# Altium footprint library LED_PcbLib.PcbLib: 3 footprints
Each footprint in its own frame and in the unit in brackets; x right, y up, seen from the top. Pads: shape width x height; smd on the part's side, far side on the other; paste and mask are expansions set on the pad; w line width, h text height; cw(c..) or ccw(c..) is an arc to the next point about the centre after c.
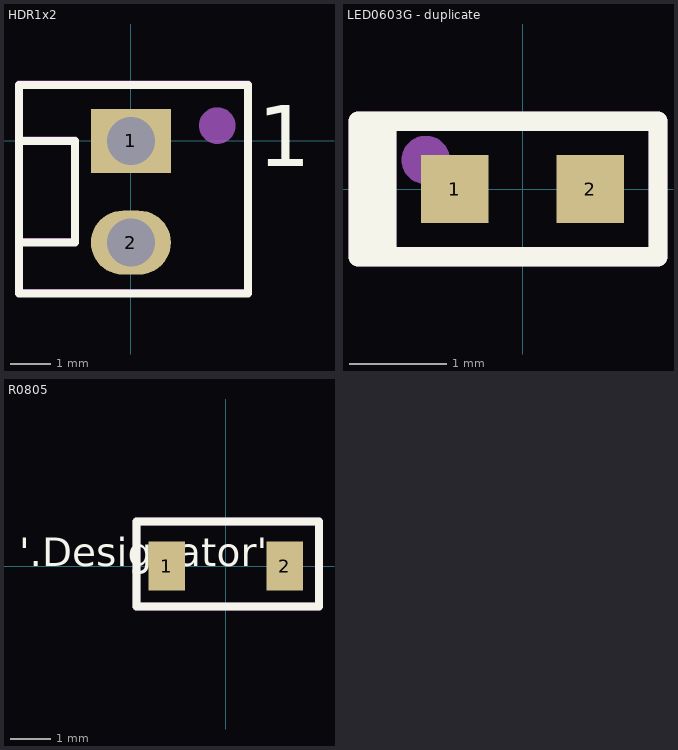
[diagram p0: the footprints below, top view; thin cyan lines are the x and y axes]

## HDR1x2 [mm]
pads (2):
  rect 2x1.6 hole 1.2: 1(0,0)
  oval 2x1.6 hole 1.2: 2(0,-2.54)
Top Overlay:
  lines w0.2: -2.667,-2.54 -1.397,-2.54 -1.397,0 -2.667,0 ; -2.794,-3.81 -2.794,1.397 2.921,1.397 2.921,-3.81 -2.794,-3.81
  text "1" at 3.175,-0.635 h1.52
Top Assembly:
  circle w0.508: c2.159,0.381 r0.203
  lines w0.2: -2.668,-2.532 -1.398,-2.532 -1.398,0.008 -2.668,0.008 ; -2.795,-3.802 -2.795,1.405 2.92,1.405 2.92,-3.802 -2.795,-3.802
  text ".Designator" at -7.364,-2.286 h1.2
3D body "022272021.stp": height 11.71, standoff -3.55, extent -2.88,-3.683 2.92,1.397

## LED0603G - duplicate [mm]
pads (2):
  rect 0.7x0.7 smd: 1(-0.7,0) 2(0.7,0)
Top Overlay:
  rectangle: -1.7,-0.7 -1.3,0.7
  lines w0.2: -1.7,-0.7 1.4,-0.7 1.4,0.7 -1.7,0.7 -1.7,-0.7
Top Assembly:
  circle w0.3: c-1,0.3 r0.1
  rectangle: -1.7,-0.7 -1.3,0.7
  lines w0.2: -1.7,-0.7 -1.7,0.7 1.4,0.7 1.4,-0.7 -1.7,-0.7
  text "'.Designator'" at -4.894,-0.6 h0.7
3D body "led.step": height 0.59, standoff 0.01, extent -0.8,-0.4 0.8,0.4

## R0805 [mm]
pads (2):
  rect 0.9x1.2 smd: 1(-1.45,0) 2(1.45,0)
Top Overlay:
  lines w0.2: -2.2,-1 2.3,-1 2.3,1.1 -2.2,1.1 -2.2,-1
  text "'.Designator'" at -5.094,0 h0.7
Top Assembly:
  lines w0.2: -2.2,-1 2.3,-1 2.3,1.1 -2.2,1.1 -2.2,-1
3D body "RT0805BRD07360RL.step": height 0.61, standoff 0.01, extent -1,-0.625 1,0.625